# Altium footprint library Chronos.PcbLib: 47 footprints (part 3 of 3)
Each footprint in its own frame and in the unit in brackets; x right, y up, seen from the top. Pads: shape width x height; smd on the part's side, far side on the other; paste and mask are expansions set on the pad; w line width, h text height; cw(c..) or ccw(c..) is an arc to the next point about the centre after c.
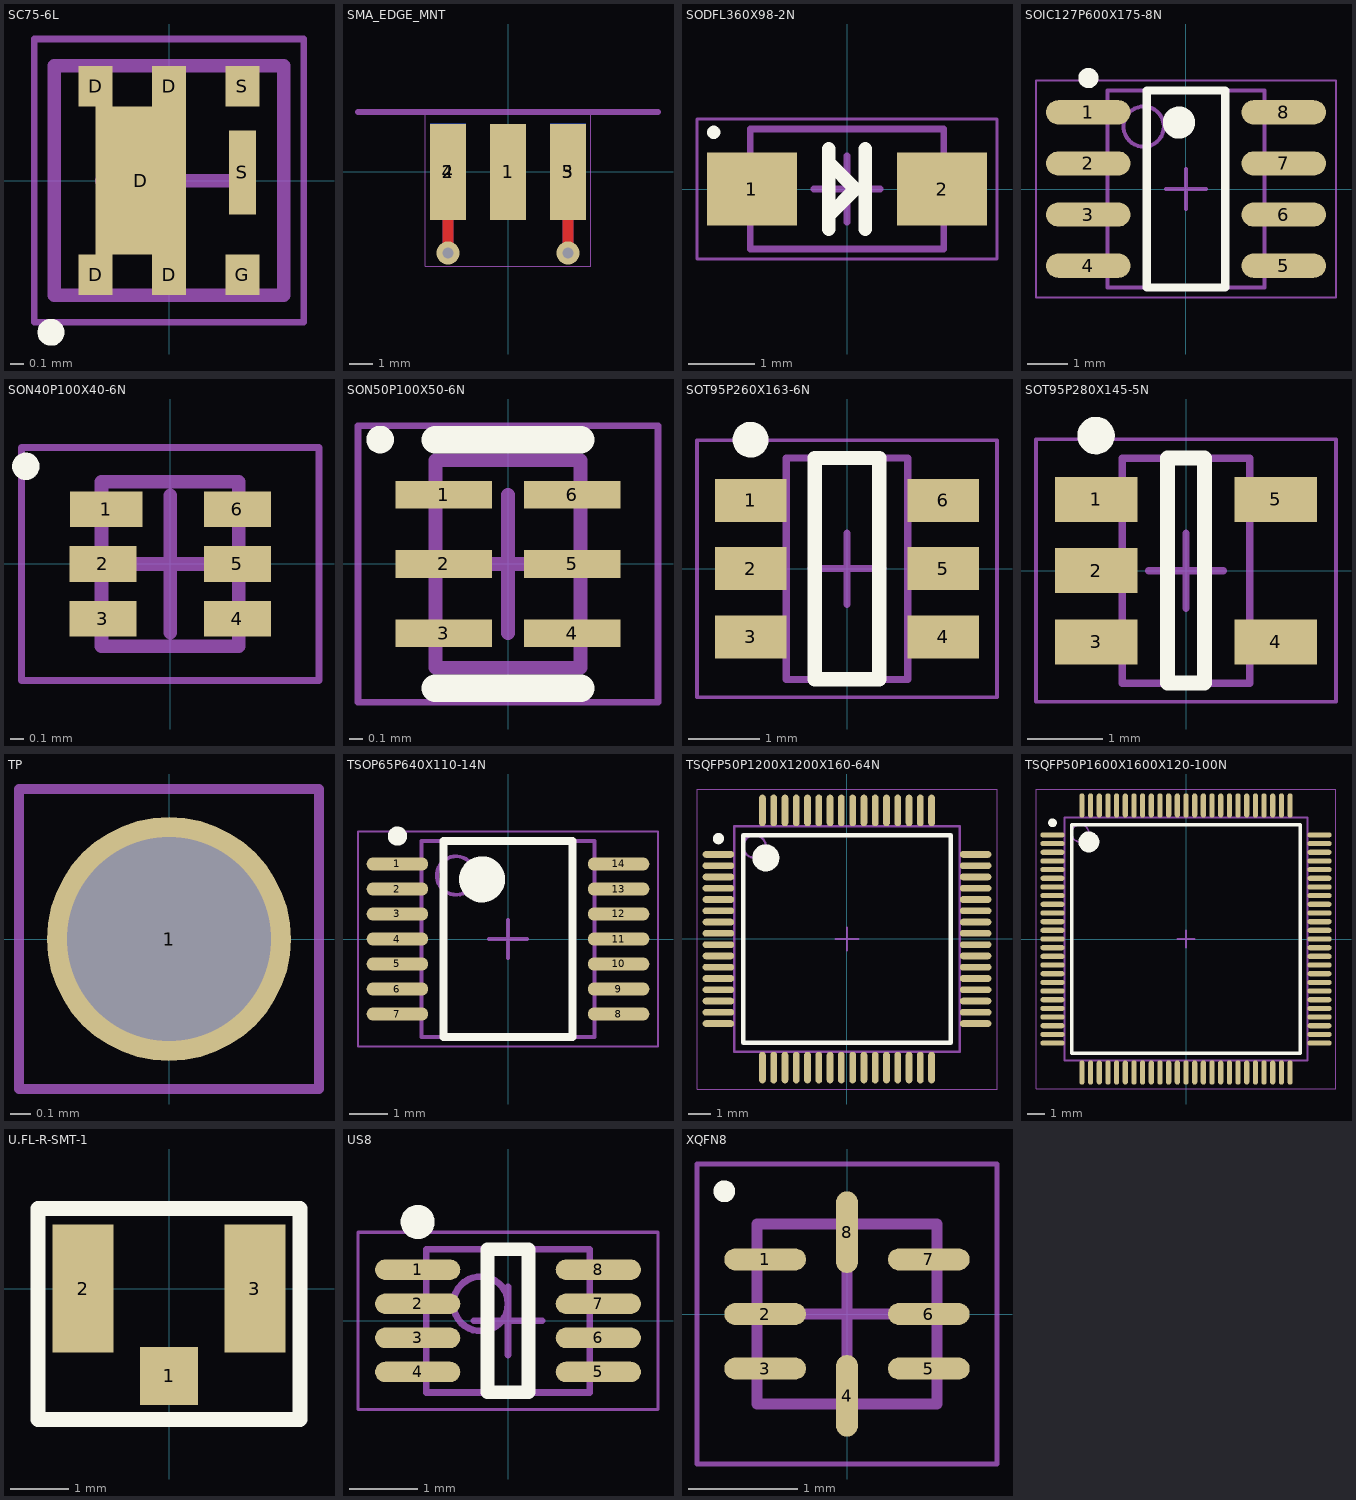
[diagram p2: the footprints below, top view; thin cyan lines are the x and y axes]

## SC75-6L [mm] "QFN, 6-Leads, Body 1.61x1.61mm, Pitch 0.50mm/1.20mm, Thermal Pad 4.00x0.00mm, IPC Medium Density"
height 0.8
pads (8):
  rect 0.25x0.3 smd: D(-0.545,-0.7) D(-0.545,0.7) D(0,-0.7) D(0,0.7) G(0.545,-0.7) S(0.545,0.7)
  rect 0.67x1.1 smd: D(-0.21,0)
  rect 0.2x0.62 smd: S(0.545,0.06)
Top Overlay:
  circle w0.1: c-0.875,-1.125 r0.05
Mechanical 13:
  lines w0.1: -0.85,-0.85 -0.85,0.85 0.85,0.85 0.85,-0.85 -0.85,-0.85
Mechanical 15:
  lines w0.05: -1,-1.05 -1,1.05 1,1.05 1,-1.05 -1,-1.05
  lines w0.1: -0.5,0 0.5,0 ; 0,-0.5 0,0.5
3D body "QFN50P161X161X80_HS-7N.step": height 0.8, standoff 0, extent -0.85,-0.9 0.85,0.9

## SMA_EDGE_MNT [mm]
pads (5):
  rect 1.52x4.06 smd: 1(0,0) 2(-2.54,0) 3(2.54,0)
  rect 1.52x4.06 smd far side: 4(-2.54,0) 5(2.54,0)
via 2.54,-3.429 diameter 0.965 hole 0.457
via -2.54,-3.429 diameter 0.965 hole 0.457
Top Layer:
  lines w0.457: -2.54,-3.429 -2.54,0 ; 2.54,-3.429 2.54,0
Bottom Layer:
  lines w0.457: -2.54,-3.429 -2.54,0 ; 2.54,-3.429 2.54,0
Mechanical 1:
  lines w0.254: -6.35,2.54 6.35,2.54
Mechanical 15:
  lines w0.05: -3.5,-4 3.5,-4 3.5,2.55 -3.5,2.55 -3.5,-4
3D body "User Library-142-0711-821.step": height 3.57, standoff -2.78, extent -3.175,-1.27 3.175,12.065

## SODFL360X98-2N [mm] "SODFL, 2-Leads, Body 1.65x3.60mm, IPC Medium Density"
height 0.98
pads (2):
  rect 1.35x1.1 smd: 1(-1.425,0) 2(1.425,0)
Top Overlay:
  circle w0.1: c-2,0.85 r0.05
  lines w0.203: -0.275,-0.6 -0.275,0.6 ; -0.275,-0.4 0.125,0 -0.275,0.4 ; 0.275,-0.6 0.275,0.6
Mechanical 13:
  lines w0.1: -1.45,-0.9 1.45,-0.9 1.45,0.9 -1.45,0.9 -1.45,-0.9
Mechanical 15:
  lines w0.05: -2.25,-1.05 2.25,-1.05 2.25,1.05 -2.25,1.05 -2.25,-1.05
  lines w0.1: -0.5,0 0.5,0 ; 0,-0.5 0,0.5
3D body "SODFL360X98-2N.step": height 0.98, standoff 0, extent -1.8,-0.9 1.8,0.9

## SOIC127P600X175-8N [mm] "SOIC, 8-Leads, Body 4.90x3.90mm, Pitch 1.27mm, IPC Medium Density"
height 1.75
pads (8):
  oval 2.1x0.6 smd: 1(-2.425,1.905) 2(-2.425,0.635) 3(-2.425,-0.635) 4(-2.425,-1.905) 5(2.425,-1.905) 6(2.425,-0.635) 7(2.425,0.635) 8(2.425,1.905)
Top Overlay:
  circle w0.25: c-2.425,2.755 r0.125
  circle w0.4: c-0.175,1.65 r0.2
  lines w0.2: -0.975,-2.45 -0.975,2.45 0.975,2.45 0.975,-2.45 -0.975,-2.45
Mechanical 13:
  circle w0.1: c-1.05,1.55 r0.5
  lines w0.1: -1.95,-2.45 -1.95,2.45 1.95,2.45 1.95,-2.45 -1.95,-2.45
Mechanical 15:
  lines w0.05: -3.725,-2.7 -3.725,2.7 3.725,2.7 3.725,-2.7 -3.725,-2.7
  lines w0.1: -0.5,0 0.5,0 ; 0,-0.5 0,0.5
3D body: height 1.75, standoff 0.1, extent -1.95,-2.45 1.95,2.45

## SON40P100X40-6N [mm] "SON, 6-Leads, Body 1.20x1.00mm, Pitch 0.40mm, IPC Medium Density"
height 0.4
pads (6):
  rect 0.53x0.26 smd paste+0 mask+0.051: 1(-0.465,0.4)
  rect 0.49x0.26 smd paste+0 mask+0.051: 2(-0.49,0) 4(0.49,-0.4) 5(0.49,0) 6(0.49,0.4)
  rect 0.49x0.26 smd mask+0.051: 3(-0.49,-0.4)
Top Overlay:
  circle w0.1: c-1.052,0.712 r0.05
Mechanical 13:
  lines w0.1: -0.5,-0.6 -0.5,0.6 0.5,0.6 0.5,-0.6 -0.5,-0.6
Mechanical 15:
  lines w0.05: -1.085,-0.85 -1.085,0.85 1.085,0.85 1.085,-0.85 -1.085,-0.85
  lines w0.1: -0.5,0 0.5,0 ; 0,-0.5 0,0.5
3D body: height 0.4, standoff 0, extent -0.5,-0.6 0.5,0.6

## SON50P100X50-6N [mm] "SON, 6-Leads, Body 1.45x1.00mm, Pitch 0.50mm, IPC Medium Density"
height 0.5
pads (6):
  rect 0.7x0.2 smd: 1(-0.465,0.5) 2(-0.465,0) 3(-0.465,-0.5) 4(0.465,-0.5) 5(0.465,0) 6(0.465,0.5)
Top Overlay:
  circle w0.1: c-0.925,0.9 r0.05
  lines w0.2: -0.525,-0.9 0.525,-0.9 ; -0.525,0.9 0.525,0.9
Mechanical 13:
  lines w0.1: -0.525,-0.75 -0.525,0.75 0.525,0.75 0.525,-0.75 -0.525,-0.75
Mechanical 15:
  lines w0.05: -1.085,-1 -1.085,1 1.085,1 1.085,-1 -1.085,-1
  lines w0.1: -0.5,0 0.5,0 ; 0,-0.5 0,0.5
3D body: height 0.5, standoff 0, extent -0.525,-0.75 0.525,0.75

## SOT95P260X163-6N [mm] "SOT23, 6-Leads, Body 2.90x2.60mm, Pitch 0.95mm, IPC Medium Density"
height 1.63
pads (6):
  rect 1x0.6 smd: 1(-1.35,0.955) 2(-1.35,0) 3(-1.35,-0.955) 4(1.35,-0.955) 5(1.35,0) 6(1.35,0.955)
Top Overlay:
  circle w0.25: c-1.35,1.805 r0.125
  lines w0.2: -0.45,-1.55 0.45,-1.55 0.45,1.55 -0.45,1.55 -0.45,-1.55
Mechanical 13:
  lines w0.1: -0.85,-1.55 -0.85,1.55 0.85,1.55 0.85,-1.55 -0.85,-1.55
Mechanical 15:
  lines w0.05: -2.1,-1.8 -2.1,1.8 2.1,1.8 2.1,-1.8 -2.1,-1.8
  lines w0.1: -0.5,0 0.5,0 ; 0,-0.5 0,0.5
3D body: height 1.63, standoff 0, extent -0.85,-1.55 0.85,1.55

## SOT95P280X145-5N [mm] "SOT23, 5-Leads, Body 2.90x2.80mm, Pitch 0.95mm, IPC Medium Density"
height 1.45
pads (5):
  rect 1.1x0.6 smd: 1(-1.2,0.95) 2(-1.2,0) 3(-1.2,-0.95) 4(1.2,-0.95) 5(1.2,0.95)
Top Overlay:
  circle w0.25: c-1.2,1.8 r0.125
  lines w0.2: -0.25,-1.5 -0.25,1.5 0.25,1.5 0.25,-1.5 -0.25,-1.5
Mechanical 13:
  lines w0.1: -0.85,-1.5 0.85,-1.5 0.85,1.5 -0.85,1.5 -0.85,-1.5
Mechanical 15:
  lines w0.05: -2,-1.75 2,-1.75 2,1.75 -2,1.75 -2,-1.75
  lines w0.1: -0.5,0 0.5,0 ; 0,-0.5 0,0.5
3D body: height 1.45, standoff 0.05, extent -0.85,-1.5 0.85,1.5

## TP [mm]
pads (1):
  round 1.22 hole 1.02: 1(0,0)
Mechanical 15:
  lines w0.05: -0.75,-0.75 -0.75,0.75 0.75,0.75 0.75,-0.75 -0.75,-0.75

## TSOP65P640X110-14N [mm] "TSOP, 14-Leads, Body 5.00x4.40mm, Pitch 0.65mm, IPC Medium Density"
height 1.1
pads (14):
  oval 1.6x0.35 smd: 1(-2.875,1.95) 2(-2.875,1.3) 3(-2.875,0.65) 4(-2.875,0) 5(-2.875,-0.65) 6(-2.875,-1.3) 7(-2.875,-1.95) 8(2.875,-1.95) 9(2.875,-1.3) 10(2.875,-0.65) 11(2.875,0) 12(2.875,0.65) 13(2.875,1.3) 14(2.875,1.95)
Top Overlay:
  circle w0.25: c-2.875,2.675 r0.125
  circle w0.6: c-0.675,1.55 r0.3
  lines w0.2: -1.675,-2.55 -1.675,2.55 1.675,2.55 1.675,-2.55 -1.675,-2.55
Mechanical 13:
  circle w0.1: c-1.35,1.65 r0.5
  lines w0.1: -2.25,-2.55 -2.25,2.55 2.25,2.55 2.25,-2.55 -2.25,-2.55
Mechanical 15:
  lines w0.05: -3.9,-2.8 -3.9,2.8 3.9,2.8 3.9,-2.8 -3.9,-2.8
  lines w0.1: -0.5,0 0.5,0 ; 0,-0.5 0,0.5
3D body: height 1.1, standoff 0.1, extent -2.25,-2.55 2.25,2.55

## TSQFP50P1200X1200X160-64N [mm] "TSQFP, 64-Leads, Body 10.00x10.00mm, Pitch 0.50mm, IPC Medium Density"
height 1.6
pads (64):
  oval 1.4x0.3 smd: 1(-5.7,3.75) 2(-5.7,3.25) 3(-5.7,2.75) 4(-5.7,2.25) 5(-5.7,1.75) 6(-5.7,1.25) 7(-5.7,0.75) 8(-5.7,0.25) 9(-5.7,-0.25) 10(-5.7,-0.75) 11(-5.7,-1.25) 12(-5.7,-1.75) 13(-5.7,-2.25) 14(-5.7,-2.75) 15(-5.7,-3.25) 16(-5.7,-3.75) 33(5.7,-3.75) 34(5.7,-3.25) 35(5.7,-2.75) 36(5.7,-2.25) 37(5.7,-1.75) 38(5.7,-1.25) 39(5.7,-0.75) 40(5.7,-0.25) 41(5.7,0.25) 42(5.7,0.75) 43(5.7,1.25) 44(5.7,1.75) 45(5.7,2.25) 46(5.7,2.75) 47(5.7,3.25) 48(5.7,3.75)
  oval 0.3x1.4 smd: 17(-3.75,-5.7) 18(-3.25,-5.7) 19(-2.75,-5.7) 20(-2.25,-5.7) 21(-1.75,-5.7) 22(-1.25,-5.7) 23(-0.75,-5.7) 24(-0.25,-5.7) 25(0.25,-5.7) 26(0.75,-5.7) 27(1.25,-5.7) 28(1.75,-5.7) 29(2.25,-5.7) 30(2.75,-5.7) 31(3.25,-5.7) 32(3.75,-5.7) 49(3.75,5.7) 50(3.25,5.7) 51(2.75,5.7) 52(2.25,5.7) 53(1.75,5.7) 54(1.25,5.7) 55(0.75,5.7) 56(0.25,5.7) 57(-0.25,5.7) 58(-0.75,5.7) 59(-1.25,5.7) 60(-1.75,5.7) 61(-2.25,5.7) 62(-2.75,5.7) 63(-3.25,5.7) 64(-3.75,5.7)
Top Overlay:
  circle w0.6: c-3.6,3.6 r0.3
  circle w0.25: c-5.7,4.45 r0.125
  lines w0.2: -4.6,-4.6 4.6,-4.6 4.6,4.6 -4.6,4.6 -4.6,-4.6
Mechanical 13:
  circle w0.1: c-4.1,4.1 r0.5
  lines w0.1: -5,-5 5,-5 5,5 -5,5 -5,-5
Mechanical 15:
  lines w0.05: -6.65,-6.65 6.65,-6.65 6.65,6.65 -6.65,6.65 -6.65,-6.65
  lines w0.1: -0.5,0 0.5,0 ; 0,-0.5 0,0.5
3D body: height 1.6, standoff 0.08, extent -5,-5 5,5

## TSQFP50P1600X1600X120-100N [mm] "TSQFP, 100-Leads, Body 14.00x14.00mm, Pitch 0.50mm, IPC Medium Density"
height 1.2
pads (100):
  oval 1.4x0.3 smd: 1(-7.7,6) 2(-7.7,5.5) 3(-7.7,5) 4(-7.7,4.5) 5(-7.7,4) 6(-7.7,3.5) 7(-7.7,3) 8(-7.7,2.5) 9(-7.7,2) 10(-7.7,1.5) 11(-7.7,1) 12(-7.7,0.5) 13(-7.7,0) 14(-7.7,-0.5) 15(-7.7,-1) 16(-7.7,-1.5) 17(-7.7,-2) 18(-7.7,-2.5) 19(-7.7,-3) 20(-7.7,-3.5) 21(-7.7,-4) 22(-7.7,-4.5) 23(-7.7,-5) 24(-7.7,-5.5) 25(-7.7,-6) 51(7.7,-6) 52(7.7,-5.5) 53(7.7,-5) 54(7.7,-4.5) 55(7.7,-4) 56(7.7,-3.5) 57(7.7,-3) 58(7.7,-2.5) 59(7.7,-2) 60(7.7,-1.5) 61(7.7,-1) 62(7.7,-0.5) 63(7.7,0) 64(7.7,0.5) 65(7.7,1) 66(7.7,1.5) 67(7.7,2) 68(7.7,2.5) 69(7.7,3) 70(7.7,3.5) 71(7.7,4) 72(7.7,4.5) 73(7.7,5) 74(7.7,5.5) 75(7.7,6)
  oval 0.3x1.4 smd: 26(-6,-7.7) 27(-5.5,-7.7) 28(-5,-7.7) 29(-4.5,-7.7) 30(-4,-7.7) 31(-3.5,-7.7) 32(-3,-7.7) 33(-2.5,-7.7) 34(-2,-7.7) 35(-1.5,-7.7) 36(-1,-7.7) 37(-0.5,-7.7) 38(0,-7.7) 39(0.5,-7.7) 40(1,-7.7) 41(1.5,-7.7) 42(2,-7.7) 43(2.5,-7.7) 44(3,-7.7) 45(3.5,-7.7) 46(4,-7.7) 47(4.5,-7.7) 48(5,-7.7) 49(5.5,-7.7) 50(6,-7.7) 76(6,7.7) 77(5.5,7.7) 78(5,7.7) 79(4.5,7.7) 80(4,7.7) 81(3.5,7.7) 82(3,7.7) 83(2.5,7.7) 84(2,7.7) 85(1.5,7.7) 86(1,7.7) 87(0.5,7.7) 88(0,7.7) 89(-0.5,7.7) 90(-1,7.7) 91(-1.5,7.7) 92(-2,7.7) 93(-2.5,7.7) 94(-3,7.7) 95(-3.5,7.7) 96(-4,7.7) 97(-4.5,7.7) 98(-5,7.7) 99(-5.5,7.7) 100(-6,7.7)
Top Overlay:
  circle w0.6: c-5.6,5.6 r0.3
  circle w0.25: c-7.7,6.7 r0.125
  lines w0.2: -6.6,-6.6 6.6,-6.6 6.6,6.6 -6.6,6.6 -6.6,-6.6
Mechanical 13:
  circle w0.1: c-6.1,6.1 r0.5
  lines w0.1: -7,-7 7,-7 7,7 -7,7 -7,-7
Mechanical 15:
  lines w0.05: -8.65,-8.65 8.65,-8.65 8.65,8.65 -8.65,8.65 -8.65,-8.65
  lines w0.1: -0.5,0 0.5,0 ; 0,-0.5 0,0.5
3D body: height 1.2, standoff 0.05, extent -7,-7 7,7

## U.FL-R-SMT-1 [mm] "U.FL-R-SMT-1"
height 1.25
pads (3):
  rect 1x1 smd: 1(0,-1.5)
  rect 1.05x2.2 smd: 2(-1.475,0) 3(1.475,0)
Top Overlay:
  lines w0.254: -2.25,-2.25 2.25,-2.25 2.25,1.375 -2.25,1.375 -2.25,-2.25
3D body "U.FL-R-SMT-1.stp": height 1.26, standoff 0.01, extent -1.5,-1.55 1.5,1.55

## US8 [mm] "US8, 8-Leads, Body 2.00x2.30mm, Pitch 0.50mm, IPC Medium Density"
height 0.9
pads (8):
  oval 1.25x0.3 smd: 1(-1.325,0.75) 2(-1.325,0.25) 3(-1.325,-0.25) 4(-1.325,-0.75) 5(1.325,-0.75) 6(1.325,-0.25) 7(1.325,0.25) 8(1.325,0.75)
Top Overlay:
  circle w0.25: c-1.325,1.45 r0.125
  lines w0.2: -0.3,-1.05 -0.3,1.05 0.3,1.05 0.3,-1.05 -0.3,-1.05
Mechanical 13:
  circle w0.1: c-0.4,0.25 r0.4
  lines w0.1: -1.2,-1.05 -1.2,1.05 1.2,1.05 1.2,-1.05 -1.2,-1.05
Mechanical 15:
  lines w0.05: -2.2,-1.3 -2.2,1.3 2.2,1.3 2.2,-1.3 -2.2,-1.3
  lines w0.1: -0.5,0 0.5,0 ; 0,-0.5 0,0.5
3D body: height 0.9, standoff 0, extent -1.2,-1.05 1.2,1.05

## XQFN8 [mm] "QFN, 8-Leads, Body 1.60x1.60mm, Pitch 0.55mm/0.50mm, IPC Medium Density"
height 0.5
pads (8):
  oval 0.75x0.2 smd: 1(-0.75,0.5) 2(-0.75,0) 3(-0.75,-0.5) 5(0.75,-0.5) 6(0.75,0) 7(0.75,0.5)
  oval 0.2x0.75 smd: 4(0,-0.75) 8(0,0.75)
Top Overlay:
  circle w0.1: c-1.125,1.125 r0.05
Mechanical 13:
  lines w0.1: -0.825,-0.825 0.825,-0.825 0.825,0.825 -0.825,0.825 -0.825,-0.825
Mechanical 15:
  lines w0.05: -1.375,-1.375 1.375,-1.375 1.375,1.375 -1.375,1.375 -1.375,-1.375
  lines w0.1: -0.5,0 0.5,0 ; 0,-0.5 0,0.5
3D body: height 0.5, standoff 0, extent -0.825,-0.825 0.825,0.825